# Altium footprint library PCB - CONNECTOR - TE 87224-3.PCBLIB: 1 footprints
Each footprint in its own frame and in the unit in brackets; x right, y up, seen from the top. Pads: shape width x height; smd on the part's side, far side on the other; paste and mask are expansions set on the pad; w line width, h text height; cw(c..) or ccw(c..) is an arc to the next point about the centre after c.
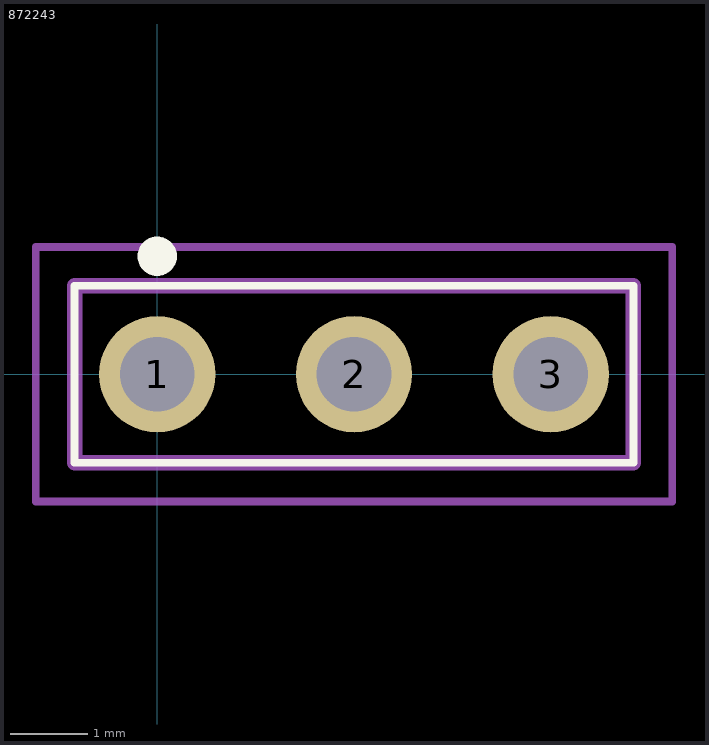
[diagram p0: the footprint, top view; thin cyan lines are the x and y axes]

## 872243 [mil]
pads (3):
  round 59.09 hole 38: 1(0,0) 2(100,0) 3(200,0)
Top Overlay:
  circle w10: c0,60 r5
  lines w3.94: -42.01,-45 242.01,-45 242.01,45 -42.01,45 -42.01,-45
Top Assembly:
  lines w7.87: -42.01,-45 -42.01,45 242.01,45 242.01,-45 -42.01,-45
Top Courtyard:
  lines w3.94: -61.69,-64.69 -61.69,64.69 261.69,64.69 261.69,-64.69 -61.69,-64.69
Top Designator:
  text ".Designator" at -55,115 h39.37
Top Value (Mech13):
  text ".Comment" at -55,80 h39.37
3D body "87224-3.stp": height 318, standoff -215, extent -43.57,-46 240.43,46